# EAGLE library part 8259A (library micro-intel)
MICROCOMPUTER/PERIPHERAL DEVICE
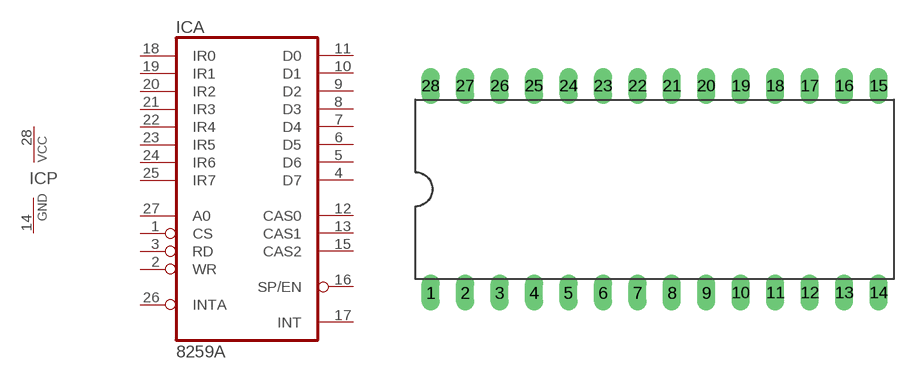
[diagram p23: symbol with the pads of DIL28-6; footprint DIL28-6]

Designator prefix IC; gates A=8259A P=PWRN

## 8259A (OC_FARNELL: unknown; OC_NEWARK: unknown)  [DIL28-6]
1  A:CS  in
2  A:WR  in
3  A:RD  in
4  A:D7
5  A:D6
6  A:D5
7  A:D4
8  A:D3
9  A:D2
10  A:D1
11  A:D0
12  A:CAS0
13  A:CAS1
14  P:GND  pwr
15  A:CAS2
16  A:SP/EN
17  A:INT  out
18  A:IR0  in
19  A:IR1  in
20  A:IR2  in
21  A:IR3  in
22  A:IR4  in
23  A:IR5  in
24  A:IR6  in
25  A:IR7  in
26  A:INTA  in
27  A:A0  in
28  P:VCC  pwr

## Footprint DIL28-6 (pad centres in mm)
Dual In Line Package 0.6 inch
drill 0.813 long: 1 -16.51,-7.62; 2 -13.97,-7.62; 3 -11.43,-7.62; 4 -8.89,-7.62; 5 -6.35,-7.62; 6 -3.81,-7.62; 7 -1.27,-7.62; 8 1.27,-7.62; 9 3.81,-7.62; 10 6.35,-7.62; 11 8.89,-7.62; 12 11.43,-7.62; 13 13.97,-7.62; 14 16.51,-7.62; 15 16.51,7.62; 16 13.97,7.62; 17 11.43,7.62; 18 8.89,7.62; 19 6.35,7.62; 20 3.81,7.62; 21 1.27,7.62; 22 -1.27,7.62; 23 -3.81,7.62; 24 -6.35,7.62; 25 -8.89,7.62; 26 -11.43,7.62; 27 -13.97,7.62; 28 -16.51,7.62